# Altium schematic symbol library GXC1V101MCW1GS.SchLib: 1 symbol
Pins are listed as number, name and electrical type; pins without a type are passive.

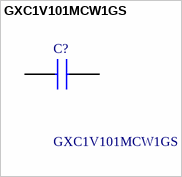
[diagram p0: symbol GXC1V101MCW1GS]

## GXC1V101MCW1GS
designator C?
Aluminum Organic Polymer Capacitors 35VDC 100uF 20% AEC-Q200 Anti-Vibe; Manufacturer_Name: Nichicon; Geometry.Height: 10.8mm; Mouser Part Number: 647-GXC1V101MCW1GS; Mouser Price/Stock: https://www.mouser.co.uk/ProductDetail/Nichicon/GXC1V101MCW1GS?qs=VVKQmw408U%2F2b%252BejxhtVvA%3D%3D; Manufacturer_Part_Number: GXC1V101MCW1GS; Datasheet Link: *
footprint CAPAE830X1080N
pins: 1 +, 2 -